# Altium schematic symbol library spacemonochrome-WR_TBL.SchLib: 1696 symbols (part 28 of 28)
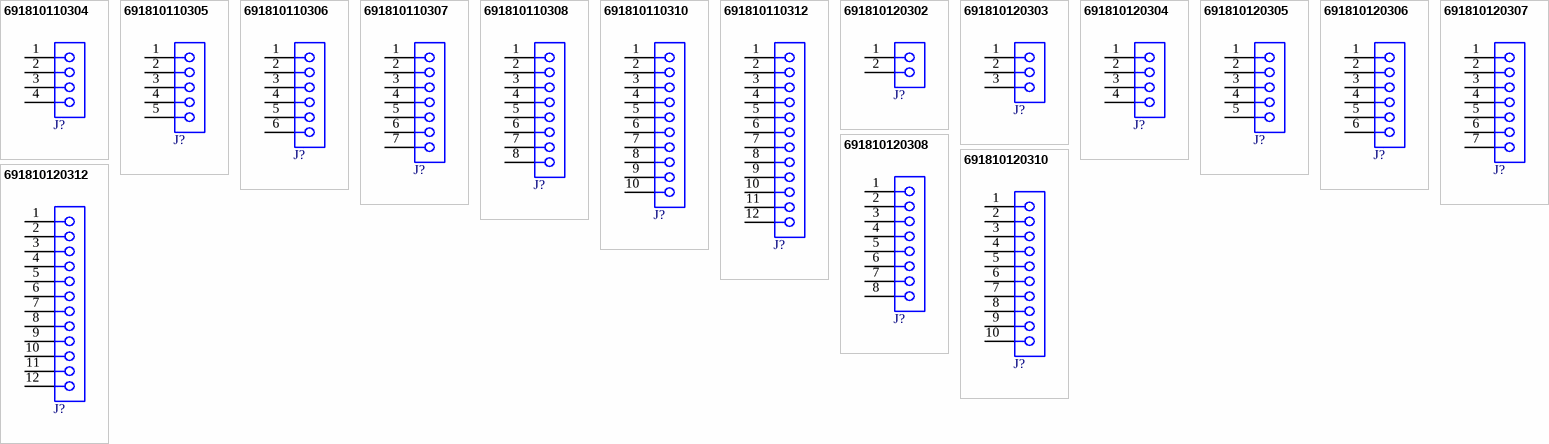
[diagram p69: symbols 691810110304 to 691810120312]

## 691810110304
designator J?  (value not drawn)
WR-TBL Series 8101 Screwless Push In Horizontal cable entry, THR, pitch 3.5mm, 4p; Manufacturer: Wurth Elektronik; Modularity: No; Manufacturer Part Number: 691810110304; Category: Terminal Blocks; Match Code: WR-TBL; ComponentLink1Description: Website Link; ComponentLink1URL: https://www.we-online.com/redexpert/article/691810110304?ad; ComponentLink2Description: Datasheet Link; ComponentLink2URL: https://www.we-online.com/redexpert/spec/691810110304?ad; Mount: Through Hole Reflow; Operating Temperature Max: 125°C; Operating Temperature Min: -40°C; Packaging: Tape and Reel; Application: Screwless Push In; Number of Pins: 4; Number of Rows: 1; Orientation: Horizontal Cable Entry; Pitch: 3.5mm
footprint 691810110304
pins: 1, 2, 3, 4

## 691810110305
designator J?  (value not drawn)
WR-TBL Series 8101 Screwless Push In Horizontal cable entry, THR, pitch 3.5mm, 5p; Manufacturer: Wurth Elektronik; Modularity: No; Manufacturer Part Number: 691810110305; Category: Terminal Blocks; Match Code: WR-TBL; ComponentLink1Description: Website Link; ComponentLink1URL: https://www.we-online.com/redexpert/article/691810110305?ad; ComponentLink2Description: Datasheet Link; ComponentLink2URL: https://www.we-online.com/redexpert/spec/691810110305?ad; Mount: Through Hole Reflow; Operating Temperature Max: 125°C; Operating Temperature Min: -40°C; Packaging: Tape and Reel; Application: Screwless Push In; Number of Pins: 5; Number of Rows: 1; Orientation: Horizontal Cable Entry; Pitch: 3.5mm
footprint 691810110305
pins: 1, 2, 3, 4, 5

## 691810110306
designator J?  (value not drawn)
WR-TBL Series 8101 Screwless Push In Horizontal cable entry, THR, pitch 3.5mm, 6p; Manufacturer: Wurth Elektronik; Modularity: No; Manufacturer Part Number: 691810110306; Category: Terminal Blocks; Match Code: WR-TBL; ComponentLink1Description: Website Link; ComponentLink1URL: https://www.we-online.com/redexpert/article/691810110306?ad; ComponentLink2Description: Datasheet Link; ComponentLink2URL: https://www.we-online.com/redexpert/spec/691810110306?ad; Mount: Through Hole Reflow; Operating Temperature Max: 125°C; Operating Temperature Min: -40°C; Packaging: Tape and Reel; Application: Screwless Push In; Number of Pins: 6; Number of Rows: 1; Orientation: Horizontal Cable Entry; Pitch: 3.5mm
footprint 691810110306
pins: 1, 2, 3, 4, 5, 6

## 691810110307
designator J?  (value not drawn)
WR-TBL Series 8101 Screwless Push In Horizontal cable entry, THR, pitch 3.5mm, 7p; Manufacturer: Wurth Elektronik; Modularity: No; Manufacturer Part Number: 691810110307; Category: Terminal Blocks; Match Code: WR-TBL; ComponentLink1Description: Website Link; ComponentLink1URL: https://www.we-online.com/redexpert/article/691810110307?ad; ComponentLink2Description: Datasheet Link; ComponentLink2URL: https://www.we-online.com/redexpert/spec/691810110307?ad; Mount: Through Hole Reflow; Operating Temperature Max: 125°C; Operating Temperature Min: -40°C; Packaging: Tape and Reel; Application: Screwless Push In; Number of Pins: 7; Number of Rows: 1; Orientation: Horizontal Cable Entry; Pitch: 3.5mm
footprint 691810110307
pins: 1, 2, 3, 4, 5, 6, 7

## 691810110308
designator J?  (value not drawn)
WR-TBL Series 8101 Screwless Push In Horizontal cable entry, THR, pitch 3.5mm, 8p; Manufacturer: Wurth Elektronik; Modularity: No; Manufacturer Part Number: 691810110308; Category: Terminal Blocks; Match Code: WR-TBL; ComponentLink1Description: Website Link; ComponentLink1URL: https://www.we-online.com/redexpert/article/691810110308?ad; ComponentLink2Description: Datasheet Link; ComponentLink2URL: https://www.we-online.com/redexpert/spec/691810110308?ad; Mount: Through Hole Reflow; Operating Temperature Max: 125°C; Operating Temperature Min: -40°C; Packaging: Tape and Reel; Application: Screwless Push In; Number of Pins: 8; Number of Rows: 1; Orientation: Horizontal Cable Entry; Pitch: 3.5mm
footprint 691810110308
pins: 1, 2, 3, 4, 5, 6, 7, 8

## 691810110310
designator J?  (value not drawn)
WR-TBL Series 8101 Screwless Push In Horizontal cable entry, THR, pitch 3.5mm, 10p; Manufacturer: Wurth Elektronik; Modularity: No; Manufacturer Part Number: 691810110310; Category: Terminal Blocks; Match Code: WR-TBL; ComponentLink1Description: Website Link; ComponentLink1URL: https://www.we-online.com/redexpert/article/691810110310?ad; ComponentLink2Description: Datasheet Link; ComponentLink2URL: https://www.we-online.com/redexpert/spec/691810110310?ad; Mount: Through Hole Reflow; Operating Temperature Max: 125°C; Operating Temperature Min: -40°C; Packaging: Tape and Reel; Application: Screwless Push In; Number of Pins: 10; Number of Rows: 1; Orientation: Horizontal Cable Entry; Pitch: 3.5mm
footprint 691810110310
pins: 1, 2, 3, 4, 5, 6, 7, 8, 9, 10

## 691810110312
designator J?  (value not drawn)
WR-TBL Series 8101 Screwless Push In Horizontal cable entry, THR, pitch 3.5mm, 12p; Manufacturer: Wurth Elektronik; Modularity: No; Manufacturer Part Number: 691810110312; Category: Terminal Blocks; Match Code: WR-TBL; ComponentLink1Description: Website Link; ComponentLink1URL: https://www.we-online.com/redexpert/article/691810110312?ad; ComponentLink2Description: Datasheet Link; ComponentLink2URL: https://www.we-online.com/redexpert/spec/691810110312?ad; Mount: Through Hole Reflow; Operating Temperature Max: 125°C; Operating Temperature Min: -40°C; Packaging: Tape and Reel; Application: Screwless Push In; Number of Pins: 12; Number of Rows: 1; Orientation: Horizontal Cable Entry; Pitch: 3.5mm
footprint 691810110312
pins: 1, 2, 3, 4, 5, 6, 7, 8, 9, 10, 11, 12

## 691810120302
designator J?  (value not drawn)
WR-TBL Series 8101 Screwless Push In 45° cable entry, THR, pitch 3.5mm, 2p; Manufacturer: Wurth Elektronik; Modularity: No; Manufacturer Part Number: 691810120302; Category: Terminal Blocks; Match Code: WR-TBL; ComponentLink1Description: Website Link; ComponentLink1URL: https://www.we-online.com/redexpert/article/691810120302?ad; ComponentLink2Description: Datasheet Link; ComponentLink2URL: https://www.we-online.com/redexpert/spec/691810120302?ad; Mount: Through Hole Reflow; Operating Temperature Max: 125°C; Operating Temperature Min: -40°C; Packaging: Tape and Reel; Application: Screwless Push In; Number of Pins: 2; Number of Rows: 1; Orientation: 45° Cable Entry; Pitch: 3.5mm
footprint 691810120302
pins: 1, 2

## 691810120303
designator J?  (value not drawn)
WR-TBL Series 8101 Screwless Push In 45° cable entry, THR, pitch 3.5mm, 3p; Manufacturer: Wurth Elektronik; Modularity: No; Manufacturer Part Number: 691810120303; Category: Terminal Blocks; Match Code: WR-TBL; ComponentLink1Description: Website Link; ComponentLink1URL: https://www.we-online.com/redexpert/article/691810120303?ad; ComponentLink2Description: Datasheet Link; ComponentLink2URL: https://www.we-online.com/redexpert/spec/691810120303?ad; Mount: Through Hole Reflow; Operating Temperature Max: 125°C; Operating Temperature Min: -40°C; Packaging: Tape and Reel; Application: Screwless Push In; Number of Pins: 3; Number of Rows: 1; Orientation: 45° Cable Entry; Pitch: 3.5mm
footprint 691810120303
pins: 1, 2, 3

## 691810120304
designator J?  (value not drawn)
WR-TBL Series 8101 Screwless Push In 45° cable entry, THR, pitch 3.5mm, 4p; Manufacturer: Wurth Elektronik; Modularity: No; Manufacturer Part Number: 691810120304; Category: Terminal Blocks; Match Code: WR-TBL; ComponentLink1Description: Website Link; ComponentLink1URL: https://www.we-online.com/redexpert/article/691810120304?ad; ComponentLink2Description: Datasheet Link; ComponentLink2URL: https://www.we-online.com/redexpert/spec/691810120304?ad; Mount: Through Hole Reflow; Operating Temperature Max: 125°C; Operating Temperature Min: -40°C; Packaging: Tape and Reel; Application: Screwless Push In; Number of Pins: 4; Number of Rows: 1; Orientation: 45° Cable Entry; Pitch: 3.5mm
footprint 691810120304
pins: 1, 2, 3, 4

## 691810120305
designator J?  (value not drawn)
WR-TBL Series 8101 Screwless Push In 45° cable entry, THR, pitch 3.5mm, 5p; Manufacturer: Wurth Elektronik; Modularity: No; Manufacturer Part Number: 691810120305; Category: Terminal Blocks; Match Code: WR-TBL; ComponentLink1Description: Website Link; ComponentLink1URL: https://www.we-online.com/redexpert/article/691810120305?ad; ComponentLink2Description: Datasheet Link; ComponentLink2URL: https://www.we-online.com/redexpert/spec/691810120305?ad; Mount: Through Hole Reflow; Operating Temperature Max: 125°C; Operating Temperature Min: -40°C; Packaging: Tape and Reel; Application: Screwless Push In; Number of Pins: 5; Number of Rows: 1; Orientation: 45° Cable Entry; Pitch: 3.5mm
footprint 691810120305
pins: 1, 2, 3, 4, 5

## 691810120306
designator J?  (value not drawn)
WR-TBL Series 8101 Screwless Push In 45° cable entry, THR, pitch 3.5mm, 6p; Manufacturer: Wurth Elektronik; Modularity: No; Manufacturer Part Number: 691810120306; Category: Terminal Blocks; Match Code: WR-TBL; ComponentLink1Description: Website Link; ComponentLink1URL: https://www.we-online.com/redexpert/article/691810120306?ad; ComponentLink2Description: Datasheet Link; ComponentLink2URL: https://www.we-online.com/redexpert/spec/691810120306?ad; Mount: Through Hole Reflow; Operating Temperature Max: 125°C; Operating Temperature Min: -40°C; Packaging: Tape and Reel; Application: Screwless Push In; Number of Pins: 6; Number of Rows: 1; Orientation: 45° Cable Entry; Pitch: 3.5mm
footprint 691810120306
pins: 1, 2, 3, 4, 5, 6

## 691810120307
designator J?  (value not drawn)
WR-TBL Series 8101 Screwless Push In 45° cable entry, THR, pitch 3.5mm, 7p; Manufacturer: Wurth Elektronik; Modularity: No; Manufacturer Part Number: 691810120307; Category: Terminal Blocks; Match Code: WR-TBL; ComponentLink1Description: Website Link; ComponentLink1URL: https://www.we-online.com/redexpert/article/691810120307?ad; ComponentLink2Description: Datasheet Link; ComponentLink2URL: https://www.we-online.com/redexpert/spec/691810120307?ad; Mount: Through Hole Reflow; Operating Temperature Max: 125°C; Operating Temperature Min: -40°C; Packaging: Tape and Reel; Application: Screwless Push In; Number of Pins: 7; Number of Rows: 1; Orientation: 45° Cable Entry; Pitch: 3.5mm
footprint 691810120307
pins: 1, 2, 3, 4, 5, 6, 7

## 691810120308
designator J?  (value not drawn)
WR-TBL Series 8101 Screwless Push In 45° cable entry, THR, pitch 3.5mm, 8p; Manufacturer: Wurth Elektronik; Modularity: No; Manufacturer Part Number: 691810120308; Category: Terminal Blocks; Match Code: WR-TBL; ComponentLink1Description: Website Link; ComponentLink1URL: https://www.we-online.com/redexpert/article/691810120308?ad; ComponentLink2Description: Datasheet Link; ComponentLink2URL: https://www.we-online.com/redexpert/spec/691810120308?ad; Mount: Through Hole Reflow; Operating Temperature Max: 125°C; Operating Temperature Min: -40°C; Packaging: Tape and Reel; Application: Screwless Push In; Number of Pins: 8; Number of Rows: 1; Orientation: 45° Cable Entry; Pitch: 3.5mm
footprint 691810120308
pins: 1, 2, 3, 4, 5, 6, 7, 8

## 691810120310
designator J?  (value not drawn)
WR-TBL Series 8101 Screwless Push In 45° cable entry, THR, pitch 3.5mm, 10p; Manufacturer: Wurth Elektronik; Modularity: No; Manufacturer Part Number: 691810120310; Category: Terminal Blocks; Match Code: WR-TBL; ComponentLink1Description: Website Link; ComponentLink1URL: https://www.we-online.com/redexpert/article/691810120310?ad; ComponentLink2Description: Datasheet Link; ComponentLink2URL: https://www.we-online.com/redexpert/spec/691810120310?ad; Mount: Through Hole Reflow; Operating Temperature Max: 125°C; Operating Temperature Min: -40°C; Packaging: Tape and Reel; Application: Screwless Push In; Number of Pins: 10; Number of Rows: 1; Orientation: 45° Cable Entry; Pitch: 3.5mm
footprint 691810120310
pins: 1, 2, 3, 4, 5, 6, 7, 8, 9, 10

## 691810120312
designator J?  (value not drawn)
WR-TBL Series 8101 Screwless Push In 45° cable entry, THR, pitch 3.5mm, 12p; Manufacturer: Wurth Elektronik; Modularity: No; Manufacturer Part Number: 691810120312; Category: Terminal Blocks; Match Code: WR-TBL; ComponentLink1Description: Website Link; ComponentLink1URL: https://www.we-online.com/redexpert/article/691810120312?ad; ComponentLink2Description: Datasheet Link; ComponentLink2URL: https://www.we-online.com/redexpert/spec/691810120312?ad; Mount: Through Hole Reflow; Operating Temperature Max: 125°C; Operating Temperature Min: -40°C; Packaging: Tape and Reel; Application: Screwless Push In; Number of Pins: 12; Number of Rows: 1; Orientation: 45° Cable Entry; Pitch: 3.5mm
footprint 691810120312
pins: 1, 2, 3, 4, 5, 6, 7, 8, 9, 10, 11, 12